# Altium footprint library TIDA-01576_ADS8686S_AFE.PcbLib: 71 footprints (part 4 of 5)
Each footprint in its own frame and in the unit in brackets; x right, y up, seen from the top. Pads: shape width x height; smd on the part's side, far side on the other; paste and mask are expansions set on the pad; w line width, h text height; cw(c..) or ccw(c..) is an arc to the next point about the centre after c.
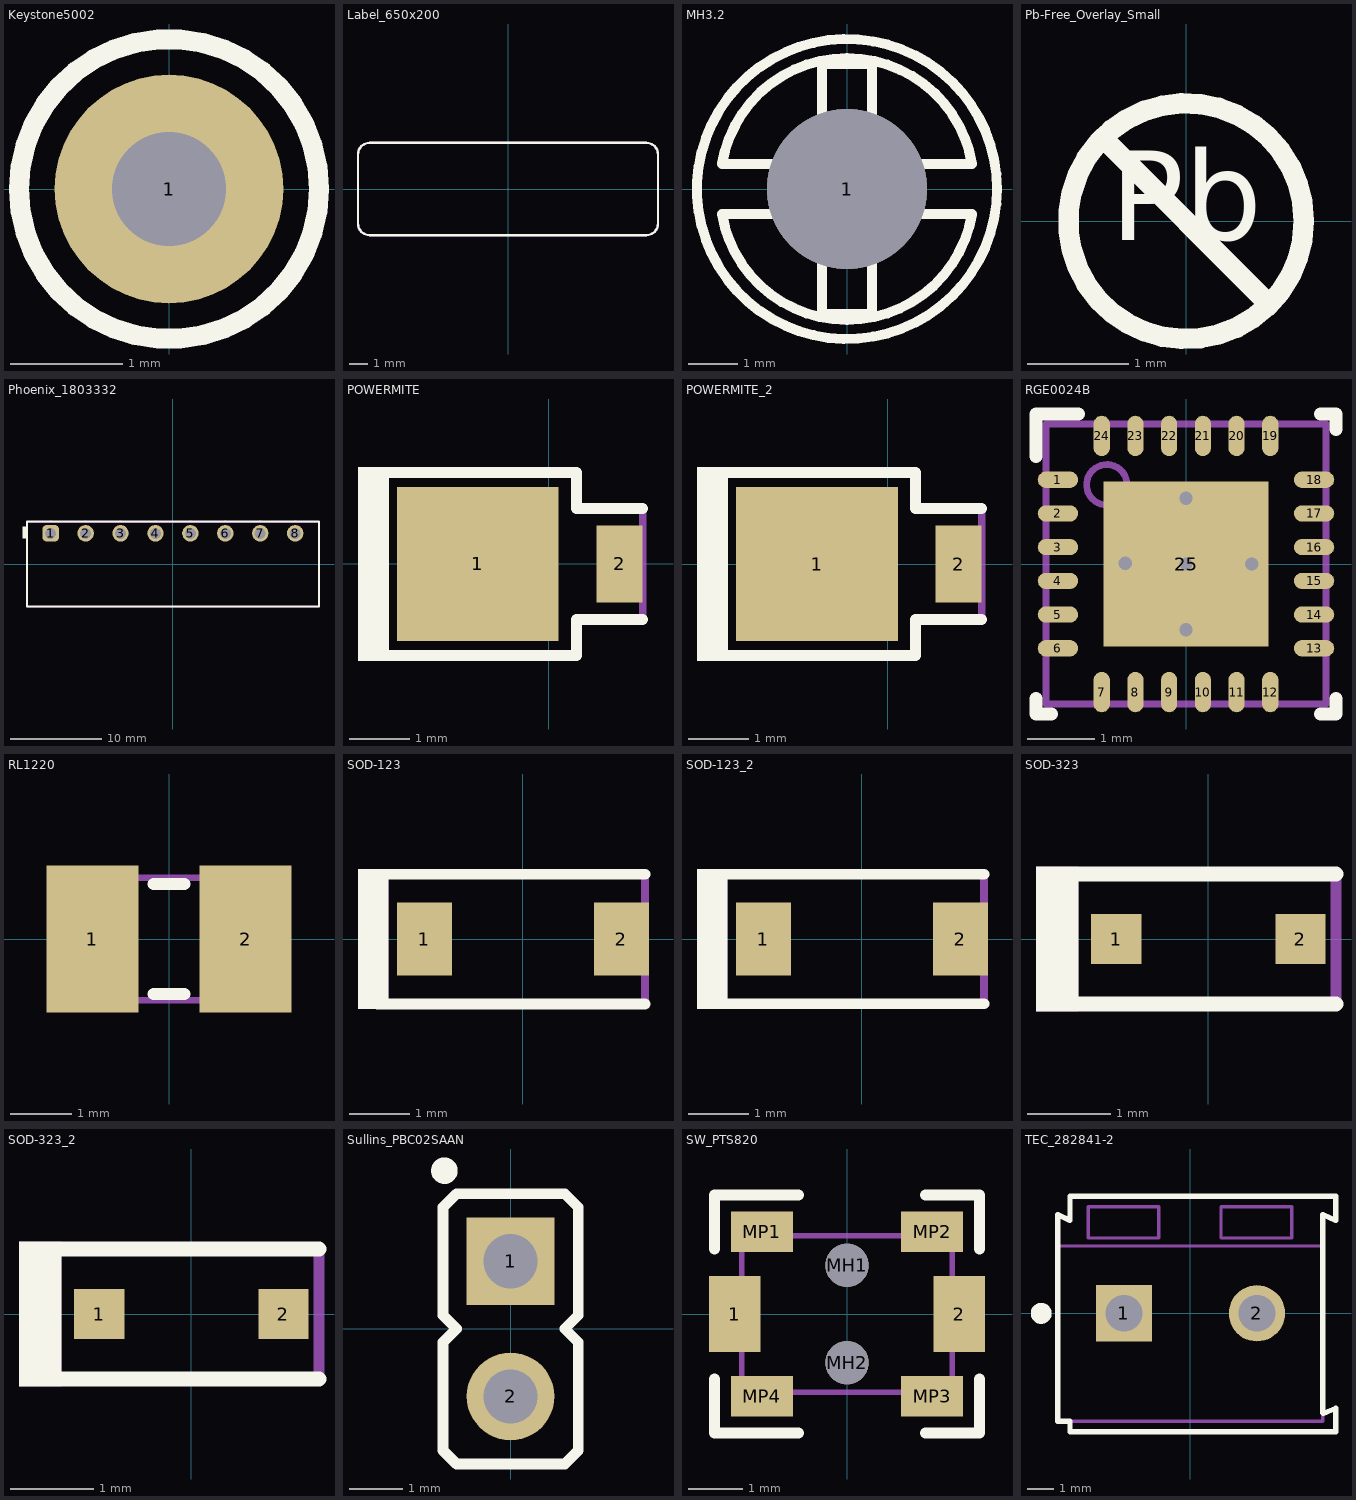
[diagram p3: the footprints below, top view; thin cyan lines are the x and y axes]

## Keystone5002 [mil] "For Keystone 500x miniature loop terminals"
height 181.1
pads (1):
  round 80 hole 40: 1(0,0)
Top Overlay:
  circle w7: c0,0 r52.5
Mechanical 5:
  circle w3.94: c0,0 r52.5
  text ".Designator" at 15.43,-99.74 h20
3D body "Keystone_5002.stp": height 181.97, standoff -118.11, extent -49,-49 49.04,49.23

## Label_650x200 [mil] "Thermal Transfer Label"
height 1
pads (1):
  round 1 on Mech13: 0(0,0)
Top Overlay:
  lines w5: -325,-75 ccw(c-300,-75) -300,-100 300,-100 ccw(c300,-75) 325,-75 325,75 ccw(c300,75) 300,100 -300,100 ccw(c-300,75) -325,75 -325,-75
Mechanical 5:
  lines w5: -325,-75 ccw(c-300,-75) -300,-100 300,-100 ccw(c300,-75) 325,-75 325,75 ccw(c300,75) 300,100 -300,100 ccw(c-300,75) -325,75 -325,-75
  text ".Designator" at -60,-20 h20
3D body: height 1, standoff 0, extent -325.02,-100.02 325.02,100.02

## MH3.2 [mil]
height 80
pads (1):
  round 128 / inner round 142 / far side round 128 hole 128 unplated mask+10: 1(0,0)
Top Overlay:
  circle w8: c0,0 r120
  lines w8: -100,-20 -20,-20 -20,-100 20,-100 20,-20 100,-20 ; -100.02,-19.91 ccw(c0,-3.35) 99.99,-20.08 ; -100,20 -20,20 -20,100 20,100 20,20 100,20 ; -99.99,20.09 cw(c0,3.36) 100.02,19.92

## Pb-Free_Overlay_Small [mm]
height 1.75
Top Overlay:
  circle w0.203: c0,0 r1.168
  lines w0.203: -0.826,0.826 0.826,-0.826
  text "Pb" at -0.752,-0.48 h1.52

## Phoenix_1803332 [mm] "Header(shrouded), 3.81mm, 8x1, R/A, TH"
height 7.4
pads (8):
  rrect50% 1.8x1.8 hole 1.2: 1(-13.335,3.4)
  round 1.8 hole 1.2: 2(-9.525,3.4) 3(-5.715,3.4) 4(-1.905,3.4) 5(1.905,3.4) 6(5.715,3.4) 7(9.525,3.4) 8(13.335,3.4)
Top Overlay:
  region: -15.892,2.841 -15.892,4.141 -16.392,4.141 -16.392,2.841
  lines w0.2: -15.935,-4.6 -15.935,-1.4 -15.935,-1.2 -15.935,-1 -15.935,4.1 -15.935,4.7 15.935,4.7 15.935,4.1 15.935,-1 15.935,-1.2 15.935,-1.4 15.935,-4.6 -15.935,-4.6
Mechanical 5:
  circle w0.1: c-9.525,3.4 r0.6
  circle w0.1: c-5.715,3.4 r0.6
  circle w0.1: c5.715,3.4 r0.6
  circle w0.1: c1.905,3.4 r0.6
  circle w0.1: c13.335,3.4 r0.6
  circle w0.1: c9.525,3.4 r0.6
  circle w0.1: c-1.905,3.4 r0.6
  circle w0.1: c-13.335,3.4 r0.6
  lines w0.1: -13.6,4.6 cw(c-13.335,4.3) -13.07,4.6 ; -9.79,4.6 cw(c-9.525,4.3) -9.26,4.6 ; -5.98,4.6 cw(c-5.715,4.3) -5.45,4.6 ; -2.17,4.6 cw(c-1.905,4.3) -1.64,4.6 ; 1.64,4.6 cw(c1.905,4.3) 2.17,4.6 ; 5.45,4.6 cw(c5.715,4.3) 5.98,4.6 ; 9.26,4.6 cw(c9.525,4.3) 9.79,4.6 ; 13.07,4.6 cw(c13.335,4.3) 13.6,4.6 ; -15.935,-4.6 15.935,-4.6 15.935,-1.4 15.935,-1.2 15.935,-1 15.935,4.1 15.935,4.6 -15.935,4.6 -15.935,4.1 -15.935,-1 -15.935,-1.2 -15.935,-1.4 -15.935,-4.6
  text ".Designator" at -1.524,-0.508 h0.51
3D body "1803332.stp": height 7.25, standoff -3.4, extent -15.935,-4.6 15.935,4.7

## POWERMITE [mil] "On Semi recommended land pattern, 457-04.pdf Rev 04E dated 2008-11-26"
height 45.28
pads (2):
  rect 105x100 smd: 1(-46,0)
  rect 30x50 smd: 2(46,0)
Top Overlay:
  rectangle: -123.92,-63 -103.92,63
  lines w7: -109.7,-59.5 -19,-59.5 18,-59.5 18,-36 61,-36 ; -109.7,59.5 -19,59.5 18,59.5 18,36 61,36
Mechanical 5:
  rectangle: -123.92,-63 -103.92,63
  lines w5: -109.7,-59.5 -19,-59.5 18,-59.5 18,-36 61,-36 61,36 18,36 18,59.5 -19,59.5 -109.7,59.5
  text ".Designator" at -64,-9 h20
3D body "PowerMite.stp": height 45.31, standoff 0, extent -94.48,-40.35 59.06,40.36

## POWERMITE_2 [mil]
pads (2):
  rect 105x100 smd: 1(-46,0)
  rect 30x50 smd: 2(46,0)
Top Overlay:
  rectangle: -124.01,-63 -104.01,63
  lines w7: -109.7,-59.5 -19,-59.5 18,-59.5 18,-36 61,-36 ; -109.7,59.5 -19,59.5 18,59.5 18,36 61,36
Mechanical 5:
  rectangle: -124.01,-63 -104.01,63
  lines w5: -109.7,-59.5 -19,-59.5 18,-59.5 18,-36 61,-36 61,36 18,36 18,59.5 -19,59.5 -109.7,59.5
  text ".Designator" at -53,16 h20
3D body "PowerMite.stp": height 45.31, standoff 0, extent -94.48,-40.35 59.06,40.36

## RGE0024B [mm] "QFN, 24-Leads, Body 4x4mm, Pitch 0.5mm, Thermal Pad 2.45x2.45mm, TI Recommended"
height 1
pads (25):
  oval 0.6x0.24 smd: 1(-1.9,1.25) 2(-1.9,0.75) 3(-1.9,0.25) 4(-1.9,-0.25) 5(-1.9,-0.75) 6(-1.9,-1.25) 13(1.9,-1.25) 14(1.9,-0.75) 15(1.9,-0.25) 16(1.9,0.25) 17(1.9,0.75) 18(1.9,1.25)
  oval 0.24x0.6 smd: 7(-1.25,-1.9) 8(-0.75,-1.9) 9(-0.25,-1.9) 10(0.25,-1.9) 11(0.75,-1.9) 12(1.25,-1.9) 19(1.25,1.9) 20(0.75,1.9) 21(0.25,1.9) 22(-0.25,1.9) 23(-0.75,1.9) 24(-1.25,1.9)
  rect 2.45x2.45 smd paste-1.225: 25(0,0)
via 0,0.975 diameter 0.5 hole 0.2
via -0.899,0.008 diameter 0.5 hole 0.2
via 0,0 diameter 0.5 hole 0.2
via 0.975,0 diameter 0.5 hole 0.2
via 0,-0.975 diameter 0.5 hole 0.2
Top Overlay:
  lines w0.2: -2.225,-2 -2.225,-2.225 -2,-2.225 ; -2.225,1.6 -2.225,2.225 -1.6,2.225 ; 2,-2.225 2.225,-2.225 2.225,-2 ; 2,2.225 2.225,2.225 2.225,2
Top Paste:
  rectangle: 0.1,0.1 1.184,1.184
  region: -0.1,1.184 -1.184,1.184 -1.184,0.1 -0.1,0.1
  region: -0.1,-0.1 -1.184,-0.1 -1.184,-1.184 -0.1,-1.184
  rectangle: 0.1,-1.184 1.184,-0.1
Mechanical 5:
  circle w0.1: c-1.175,1.175 r0.3
  lines w0.1: -2.075,-2.075 -2.075,2.075 2.075,2.075 2.075,-2.075 -2.075,-2.075
  text ".Designator" at -0.235,0.325 h0.51
3D body: height 1, standoff 0, extent -2.075,-2.075 2.075,2.075
3D body: height 1.01, standoff 0.5, extent -1.474,0.876 -0.876,1.474

## RL1220 [mm] "Susumu"
height 0.7
pads (2):
  rect 1.5x2.4 smd: 1(-1.25,0) 2(1.25,0)
Top Overlay:
  lines w0.2: -0.25,-0.9 0.25,-0.9 ; -0.25,0.9 0.25,0.9
Mechanical 5:
  lines w0.1: -1.8,-1 -1.8,1 1.8,1 1.8,-1 -1.8,-1
  text ".Designator" at 0.686,0.279 h0.51
3D body: height 0.7, standoff 0, extent 0.601,-0.724 1.099,0.724
3D body: height 0.7, standoff 0, extent -0.599,-0.724 0.599,0.724
3D body: height 0.7, standoff 0, extent -1.099,-0.724 -0.601,0.724

## SOD-123 [mm] "On Semi recommended land pattern"
height 1.35
pads (2):
  rect 0.915x1.22 smd: 1(-1.637,0) 2(1.637,0)
Top Overlay:
  rectangle: -2.743,-1.168 -2.235,1.169
  lines w0.178: -2.413,-1.079 2.032,-1.079 ; -2.413,1.079 2.032,1.079
Mechanical 5:
  rectangle: -2.743,-1.168 -2.235,1.169
  lines w0.127: -2.413,-1.079 2.032,-1.079 2.032,1.079 -2.413,1.079
  text ".Designator" at 0.41,0.296 h0.51
3D body "SOD-123.stp": height 1.35, standoff 0, extent -1.932,-0.9 1.932,0.9

## SOD-123_2 [mm]
pads (2):
  rect 0.915x1.22 smd: 1(-1.637,0) 2(1.637,0)
Top Overlay:
  rectangle: -2.743,-1.168 -2.235,1.169
  lines w0.178: -2.413,-1.079 2.032,-1.079 ; -2.413,1.079 2.032,1.079
Mechanical 5:
  rectangle: -2.743,-1.168 -2.235,1.169
  lines w0.127: -2.413,-1.079 2.032,-1.079 2.032,1.079 -2.413,1.079
  text ".Designator" at 0.149,-0.488 h0.51
3D body "SOD-123.stp": height 1.35, standoff 0, extent -1.932,-0.9 1.932,0.9

## SOD-323 [mm] "NXP recommended land pattern"
height 1.15
pads (2):
  rect 0.6x0.6 smd paste-0.05: 1(-1.1,0) 2(1.1,0)
Top Overlay:
  rectangle: -2.057,-0.864 -1.549,0.864
  lines w0.178: -1.803,-0.775 0.1,-0.775 1.525,-0.775 ; -1.803,0.775 0.1,0.775 1.525,0.775
Mechanical 5:
  rectangle: -2.057,-0.864 -1.549,0.864
  lines w0.127: -1.803,-0.775 0.1,-0.775 1.525,-0.775 1.525,0.775 0.1,0.775 -1.803,0.775
  text ".Designator" at -0.716,-0.23 h0.51
3D body "SOD-323.stp": height 1.1, standoff 0, extent -1.3,-0.675 1.3,0.675

## SOD-323_2 [mm]
pads (2):
  rect 0.6x0.6 smd paste-0.05: 1(-1.1,0) 2(1.1,0)
Top Overlay:
  rectangle: -2.058,-0.864 -1.55,0.864
  lines w0.178: -1.803,-0.775 0.1,-0.775 1.525,-0.775 ; -1.803,0.775 0.1,0.775 1.525,0.775
Mechanical 5:
  rectangle: -2.058,-0.864 -1.55,0.864
  lines w0.127: -1.803,-0.775 0.1,-0.775 1.525,-0.775 1.525,0.775 0.1,0.775 -1.803,0.775
  text ".Designator" at -0.504,-0.157 h0.51
3D body "SOD-323.stp": height 1.1, standoff 0, extent -1.3,-0.675 1.3,0.675

## Sullins_PBC02SAAN [mm] "Sullins 100mil, 1x2, 230 mil above insulator"
height 8.382
pads (2):
  rect 1.65x1.65 hole 1.016: 1(0,1.27)
  round 1.65 hole 1.016: 2(0,-1.27)
Top Overlay:
  circle w0.25: c-1.245,2.972 r0.125
  lines w0.2: -1.27,-2.286 -1.016,-2.54 1.016,-2.54 1.27,-2.286 1.27,-0.254 1.016,0 1.27,0.254 1.27,2.286 1.016,2.54 -1.016,2.54 -1.27,2.286 -1.27,0.254 -1.016,0 -1.27,-0.254 -1.27,-2.286
Mechanical 5:
  lines w0.1: -1.27,-2.286 -1.27,-0.254 -1.016,0 -1.27,0.254 -1.27,2.286 -1.016,2.54 1.016,2.54 1.27,2.286 1.27,0.254 1.016,0 1.27,-0.254 1.27,-2.286 1.016,-2.54 -1.016,-2.54 -1.27,-2.286
  text ".Designator" at -0.432,-0.203 h0.51
3D body: height 8.38, standoff -3.05, extent -0.317,0.953 0.317,1.587
3D body: height 8.38, standoff -3.05, extent -0.317,-1.587 0.317,-0.953
3D body: height 2.54, standoff 0, extent -1.27,-2.54 1.27,2.54

## SW_PTS820 [mm] "SMT, 2-Leads, Body 3.9x2.9mm"
height 2
pads (8):
  rect 0.95x1.4 smd: 1(-2.075,0) 2(2.075,0)
  round 0.8 hole 0.8 unplated mask+0.203: MH1(0,0.9) MH2(0,-0.9)
  rect 1.15x0.75 smd: MP1(-1.575,1.525) MP2(1.575,1.525) MP3(1.575,-1.525) MP4(-1.575,-1.525)
Top Overlay:
  lines w0.2: -2.45,-1.2 -2.45,-2.2 -0.9,-2.2 ; -2.45,1.2 -2.45,2.2 -0.9,2.2 ; 1.45,-2.2 2.45,-2.2 2.45,-1.2 ; 1.45,2.2 2.45,2.2 2.45,1.2
Mechanical 5:
  lines w0.1: -1.95,-0.5 -1.982,-0.5 -2.157,-0.5 -2.25,-0.5 -2.25,0.5 -2.157,0.5 -1.982,0.5 -1.95,0.5 ; 1.95,-0.5 1.982,-0.5 2.157,-0.5 2.25,-0.5 2.25,0.5 2.157,0.5 1.982,0.5 1.95,0.5 ; -1.95,-1.45 1.95,-1.45 1.95,1.45 -1.95,1.45 -1.95,-1.45
  text ".Designator" at -0.254,0.356 h0.51
3D body "PTS820.stp": height 2, standoff -0.5, extent -2.25,-1.45 2.25,1.45

## TEC_282841-2 [mm] "TE Connectivity"
height 15.45
pads (2):
  rect 2.15x2.15 hole 1.4: 1(-2.54,0)
  round 2.15 hole 1.4: 2(2.54,0)
Top Overlay:
  circle w0.4: c-5.7,0 r0.2
  lines w0.203: 5.05,-3.8 5.05,3.775 5.55,3.55 5.55,4.475 -4.6,4.475 -4.6,3.55 -5.075,3.775 -5.075,-4.125 -4.6,-4.125 -4.6,-4.525 5.55,-4.525 5.55,-3.625 5.075,-3.825
Mechanical 5:
  circle w0.4: c-2.55,0.025 r0.2
  lines w0.127: 5.06,-3.825 5.56,-3.625 5.56,-4.525 -4.61,-4.525 -4.61,-4.125 ; -5.1,2.575 5.06,2.575 ; -5.1,2.575 -5.1,3.775 -4.61,3.575 -4.61,4.475 5.56,4.475 5.56,3.575 5.06,3.775 5.06,2.575 ; -5.1,2.575 -5.1,2.292 -5.1,2.093 -5.1,-3.051 -5.1,-3.249 -5.1,-4.125 -4.61,-4.125 ; -4.61,-4.125 5.06,-4.125 5.06,-3.249 5.06,-3.051 5.06,2.093 5.06,2.292 5.06,2.575 ; -3.91,2.875 -3.91,4.075 -1.21,4.075 -1.21,2.875 -3.91,2.875 ; 1.17,2.875 3.87,2.875 3.87,4.075 1.17,4.075 1.17,2.875
  text ".Designator" at 0.686,0.025 h0.51
3D body "TEC-282841-2.stp": height 15.2, standoff -3.5, extent -5.08,-4.525 5.58,4.475